# EAGLE library part 690357101272 (library Eagle_BOARD-TO-BOARD_CONNECTORS (rev18b))
WR-MM Male Connector with Polarization, 12 Pins=>Code : Con_BTB_MM_Male_THT_690357101272 <http://katalog.we-online.de/media/thumbs2/eican/thb_Con_BTB_MM_Male_THT_69035710xx72_pf2.jpg> Details see: http://katalog.we-online.de/en/em/6903_5710_xx_72 Created 2014-06-04, Karrer Zheng 2014 (C) Würth Elektronik
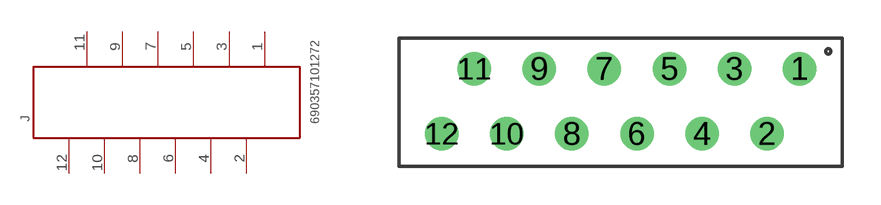
[diagram p308: symbol with the pads of 690357101272; footprint 690357101272]

Designator prefix J

## 690357101272  [690357101272]
1  12  pas
2  11  pas
3  10  pas
4  9  pas
5  8  pas
6  7  pas
7  6  pas
8  5  pas
9  4  pas
10  3  pas
11  2  pas
12  1  pas

## Footprint 690357101272 (pad centres in mm)
WR-MM Male Connector with Polarization, 12 Pins
drill 0.8: 1 6.985,1.315; 2 5.715,-1.225; 3 4.445,1.315; 4 3.175,-1.225; 5 1.905,1.315; 6 0.635,-1.225; 7 -0.635,1.315; 8 -1.905,-1.225; 9 -3.175,1.315; 10 -4.445,-1.225; 11 -5.715,1.315; 12 -6.985,-1.225